# EAGLE library part MC14023BCPG (library ON Semiconductor_By_element14_Batch_1)
B-Suffix Series CMOS Gates
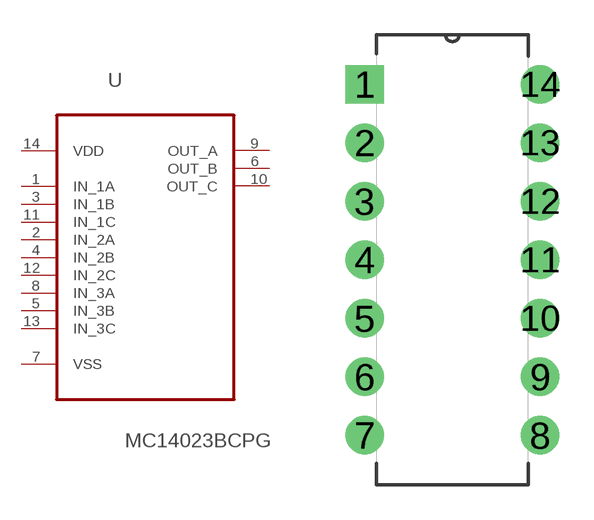
[diagram p214: symbol with the pads of DIP254P762X469-14; footprint DIP254P762X469-14]

Designator prefix U

## MC14023BCPG (MPN: MC14023BCPG; OC_FARNELL: 9665501; OC_NEWARK: 73K0840; P1I: o; PACKAGE: PDIP-14; SUPPLIER: On Semiconductor)  [DIP254P762X469-14]
1  IN_1A  in
2  IN_2A  in
3  IN_1B  in
4  IN_2B  in
5  IN_3B  in
6  OUT_B  out
7  VSS  pwr
8  IN_3A  in
9  OUT_A  out
10  OUT_C  out
11  IN_1C  in
12  IN_2C  in
13  IN_3C  in
14  VDD  pwr

## Footprint DIP254P762X469-14 (pad centres in mm)
drill 1.118 square: 1 -7.62,15.24
drill 1.118: 2 -7.62,12.7; 3 -7.62,10.16; 4 -7.62,7.62; 5 -7.62,5.08; 6 -7.62,2.54; 7 -7.62,0; 8 0,0; 9 0,2.54; 10 0,5.08; 11 0,7.62; 12 0,10.16; 13 0,12.7; 14 0,15.24